# Altium footprint library gini_base_pcb.PCBLIB: 175 footprints (part 2 of 11)
Each footprint in its own frame and in the unit in brackets; x right, y up, seen from the top. Pads: shape width x height; smd on the part's side, far side on the other; paste and mask are expansions set on the pad; w line width, h text height; cw(c..) or ccw(c..) is an arc to the next point about the centre after c.
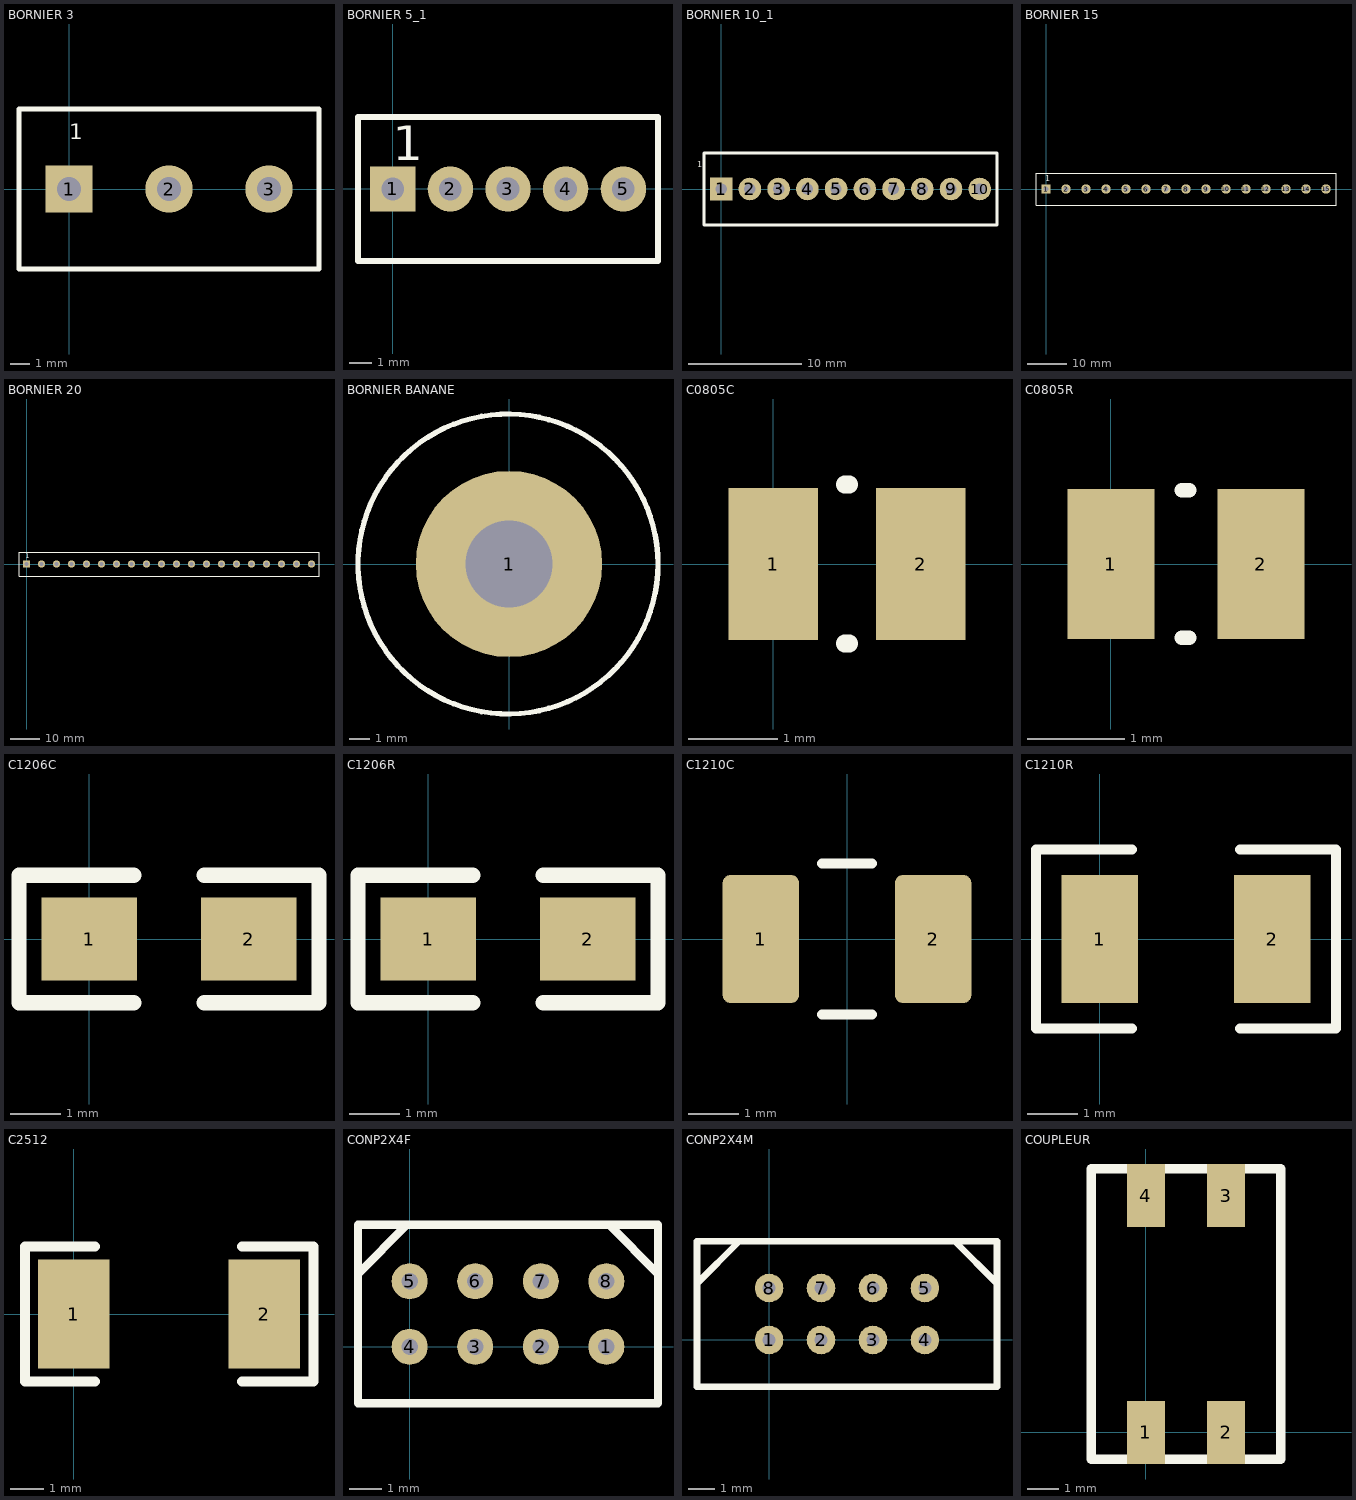
[diagram p1: the footprints below, top view; thin cyan lines are the x and y axes]

## BORNIER 3 [mm] "Pas en stock"
pads (3):
  rect 2.4x2.4 hole 1.2: 1(0,0)
  round 2.4 hole 1.2: 2(5.08,0) 3(10.16,0)
TopOverlay:
  lines w0.254: -2.54,-4.064 -2.54,4.064 12.7,4.064 12.7,-4.064 -2.54,-4.064
  text "1" at 0,2.54 h0.8

## BORNIER 5_1 [mm]
pads (5):
  rect 2x2 hole 1: 1(0,0)
  round 2 hole 1: 2(2.54,0) 3(5.08,0) 4(7.62,0) 5(10.16,0)
TopOverlay:
  lines w0.254: -1.524,-3.175 -1.524,3.175 11.684,3.175 11.684,-3.175 -1.524,-3.175
  text "1" at 0,1.27 h1.52

## BORNIER 10_1 [mm]
pads (10):
  rect 2x2 hole 1: 1(0,0)
  round 2 hole 1: 2(2.54,0) 3(5.08,0) 4(7.62,0) 5(10.16,0) 6(12.7,0) 7(15.24,0) 8(17.78,0) 9(20.32,0) 10(22.86,0)
TopOverlay:
  lines w0.254: -1.524,-3.175 -1.524,3.175 24.384,3.175 24.384,-3.175 -1.524,-3.175
  text "1" at -2.132,1.905 h0.51

## BORNIER 15 [mm]
pads (15):
  rect 2.4x2.4 hole 1.2: 1(0,0)
  round 2.4 hole 1.2: 2(5.08,0) 3(10.16,0) 4(15.24,0) 5(20.32,0) 6(25.4,0) 7(30.48,0) 8(35.56,0) 9(40.64,0) 10(45.72,0) 11(50.8,0) 12(55.88,0) 13(60.96,0) 14(66.04,0) 15(71.12,0)
TopOverlay:
  lines w0.254: -2.54,-4.064 73.66,-4.064 73.66,4.064 -2.54,4.064 -2.54,-4.064
  text "1" at -0.254,2.032 h1.52

## BORNIER 20 [mm]
pads (20):
  rect 2.4x2.4 hole 1.2: 1(0,0)
  round 2.4 hole 1.2: 2(5.08,0) 3(10.16,0) 4(15.24,0) 5(20.32,0) 6(25.4,0) 7(30.48,0) 8(35.56,0) 9(40.64,0) 10(45.72,0) 11(50.8,0) 12(55.88,0) 13(60.96,0) 14(66.04,0) 15(71.12,0) 16(76.2,0) 17(81.28,0) 18(86.36,0) 19(91.44,0) 20(96.52,0)
TopOverlay:
  lines w0.254: -2.54,-4.064 99.06,-4.064 99.06,4.064 -2.54,4.064 -2.54,-4.064
  text "1" at -0.254,2.032 h1.52

## BORNIER BANANE [mm]
pads (1):
  round 9 hole 4.2: 1(0,0)
TopOverlay:
  circle w0.254: c-0.05,0 r7.25

## C0805C [mm]
height 1
pads (2):
  rect 1x1.7 smd: 1(0,0) 2(1.65,0)
TopOverlay:
  lines w0.2: 0.8,-0.889 0.85,-0.889 ; 0.8,0.889 0.85,0.889
3D body: height 0.78, standoff 0, extent -0.213,-0.61 1.787,0.64

## C0805R [mm]
height 1
pads (2):
  rect 0.9x1.55 smd: 1(0,0) 2(1.55,0)
TopOverlay:
  lines w0.15: 0.73,-0.762 0.81,-0.762 ; 0.73,0.762 0.81,0.762
3D body: height 0.78, standoff 0, extent -0.238,-0.625 1.762,0.625

## C1206C [mil]
pads (2):
  rect 75x65 smd: 1(0,0) 2(125,0)
TopOverlay:
  lines w12: 35,-50 -55,-50 -55,50 35,50 ; 90,-50 180,-50 180,50 90,50
3D body: height 39.45, standoff 0, extent 0.01,-30.49 126,32.51

## C1206R [mil]
pads (2):
  rect 75x65 smd: 1(0,0) 2(125,0)
TopOverlay:
  lines w12: 35,-50 -55,-50 -55,50 35,50 ; 90,-50 180,-50 180,50 90,50
3D body: height 39.45, standoff 0, extent -0.98,-32.49 125,30.51

## C1210C [mil]
pads (2):
  rrect20% 60x100 smd: 1(-67.5,0) 2(67.5,0)
TopOverlay:
  lines w7.87: -19.68,-59.06 19.68,-59.06 ; -19.68,59.06 19.68,59.06
3D body: height 98.43, standoff 0, extent -60.49,-49.21 65.5,49.22

## C1210R [mil]
pads (2):
  rect 60x100 smd: 1(0,0) 2(135,0)
TopOverlay:
  lines w7.87: 25,-70 -50,-70 -50,70 25,70 ; 110,-70 185,-70 185,70 110,70
3D body: height 24.79, standoff 0, extent -19.16,-53.26 146.2,53.04

## C2512 [mil]
pads (2):
  rect 85x130 smd: 1(0,0) 2(226.38,0)
TopOverlay:
  lines w12: 25,-80 -58,-80 -58,80 25,80 ; 200,-80 285,-80 285,80 200,80

## CONP2X4F [mm] "Petit connecteur 2x4 femelle"
pads (8):
  round 1.1 hole 0.5: 1(6,0) 2(4,0) 3(2,0) 4(0,0) 5(0,2) 6(2,2) 7(4,2) 8(6,2)
TopOverlay:
  lines w0.254: -1.575,2.225 -0.075,3.725 ; 6.075,3.725 7.575,2.225 ; -1.575,-1.725 -1.575,3.725 7.575,3.725 7.575,-1.725 -1.575,-1.725

## CONP2X4M [mm] "Petit connecteur 2X4 male"
pads (8):
  round 1.1 hole 0.5: 1(0,0) 2(2,0) 3(4,0) 4(6,0) 5(6,2) 6(4,2) 7(2,2) 8(0,2)
TopOverlay:
  lines w0.254: -2.775,2.175 -1.15,3.8 ; 7.15,3.8 8.775,2.175 ; -2.775,-1.8 -2.775,3.8 8.775,3.8 8.775,-1.8 -2.775,-1.8

## COUPLEUR [mm]
pads (4):
  rect 1.2x2 smd: 1(0,0) 2(2.54,0) 3(2.54,7.5) 4(0,7.5)
TopOverlay:
  lines w0.305: -1.73,-0.85 4.27,-0.85 4.27,8.35 -1.73,8.35 -1.73,-0.85